# Altium footprint library Oscillator_PcbLib.PcbLib: 9 footprints
Each footprint in its own frame and in the unit in brackets; x right, y up, seen from the top. Pads: shape width x height; smd on the part's side, far side on the other; paste and mask are expansions set on the pad; w line width, h text height; cw(c..) or ccw(c..) is an arc to the next point about the centre after c.
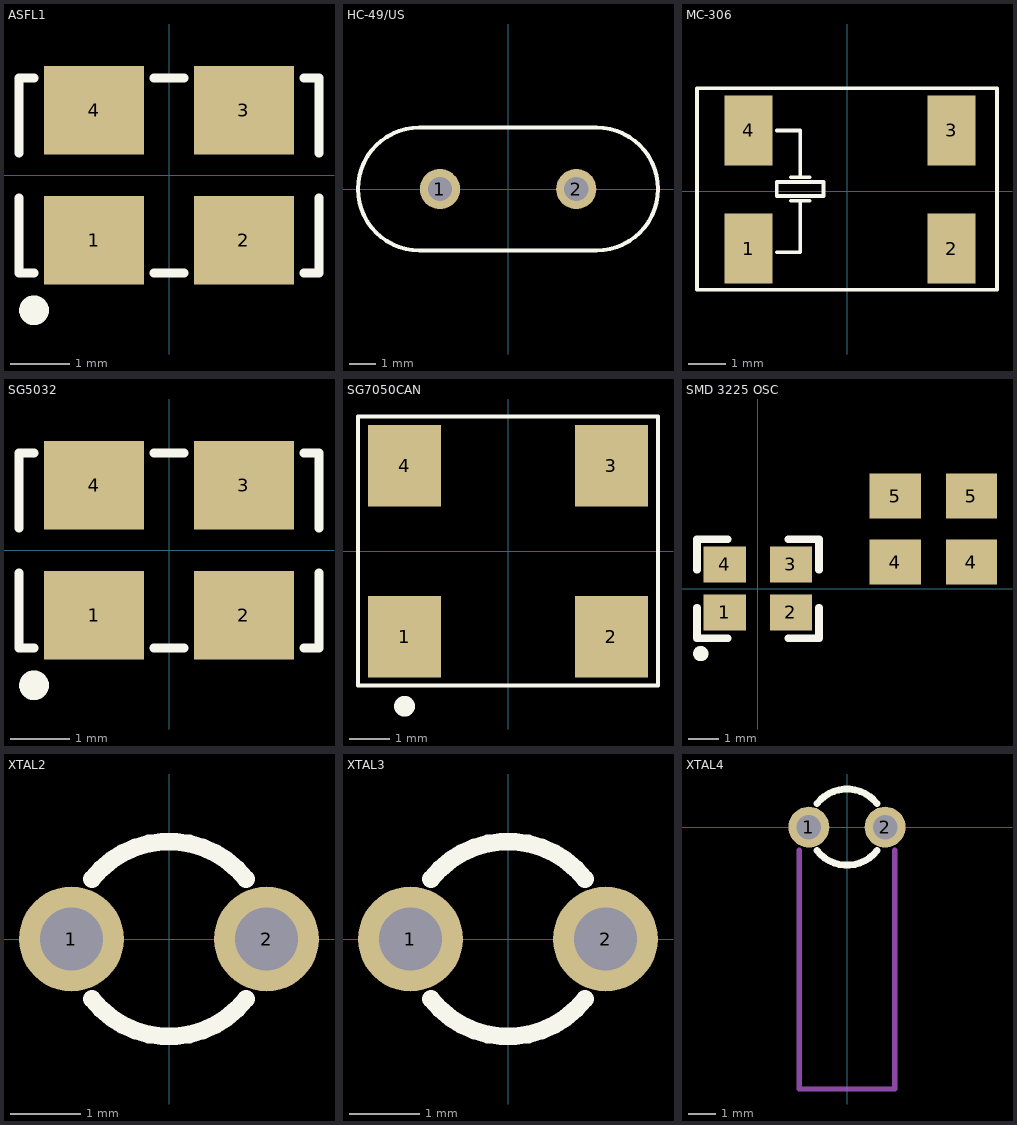
[diagram p0: the footprints below, top view; thin cyan lines are the x and y axes]

## ASFL1 [mm]
pads (4):
  rect 1.7x1.5 smd: 1(-1.27,-1.1) 2(1.27,-1.1) 3(1.27,1.1) 4(-1.27,1.1)
Top Overlay:
  circle w0.25: c-2.286,-2.286 r0.127
  lines w0.15: -2.54,-0.381 -2.54,-1.651 -2.286,-1.651 ; -2.54,0.381 -2.54,1.651 -2.286,1.651 ; -0.254,-1.651 0.254,-1.651 ; -0.254,1.651 0.254,1.651 ; 2.286,-1.651 2.54,-1.651 2.54,-0.381 ; 2.286,1.651 2.54,1.651 2.54,0.381
3D body: height 1.33, standoff 0.01, extent -2.473,-1.6 2.527,1.6

## HC-49/US [mm]
pads (2):
  round 1.5 hole 0.9: 1(-2.54,0) 2(2.54,0)
Top Overlay:
  lines w0.15: -3.302,-2.286 cw(c-3.302,0.004) -3.302,2.293 3.295,2.293 cw(c3.295,0.004) 3.295,-2.286 -3.302,-2.286
3D body: height 3.6, standoff -1.99, extent -5.675,-2.325 5.675,2.325

## MC-306 [mm]
pads (4):
  rect 1.3x1.9 smd: 1(-2.667,-1.549) 2(2.833,-1.549) 3(2.833,1.651) 4(-2.667,1.651)
Top Overlay:
  lines w0.1: -1.905,-1.651 -1.27,-1.651 -1.27,-0.254 ; -1.905,1.651 -1.27,1.651 -1.27,0.381 ; -1.524,-0.254 -1.016,-0.254 ; -1.524,0.381 -1.016,0.381 ; -4.064,-2.667 4.064,-2.667 4.064,2.794 -4.064,2.794 -4.064,-2.667 ; -1.905,-0.127 -1.905,0.254 -0.635,0.254 -0.635,-0.127 -1.905,-0.127
3D body: height 2.7, standoff -0.01, extent -4,-2 4,2

## SG5032 [mm]
pads (4):
  rect 1.7x1.5 smd: 1(-1.27,-1.1) 2(1.27,-1.1) 3(1.27,1.1) 4(-1.27,1.1)
Top Overlay:
  circle w0.25: c-2.286,-2.286 r0.127
  lines w0.15: -2.54,-0.381 -2.54,-1.651 -2.286,-1.651 ; -2.54,0.381 -2.54,1.651 -2.286,1.651 ; -0.254,-1.651 0.254,-1.651 ; -0.254,1.651 0.254,1.651 ; 2.286,-1.651 2.54,-1.651 2.54,-0.381 ; 2.286,1.651 2.54,1.651 2.54,0.381
3D body: height 1.33, standoff 0.01, extent -2.473,-1.6 2.527,1.6

## SG7050CAN [mm]
pads (4):
  rect 1.8x2 smd: 1(-2.54,-2.1) 2(2.54,-2.1) 3(2.54,2.1) 4(-2.54,2.1)
Top Overlay:
  circle w0.254: c-2.54,-3.81 r0.127
  lines w0.1: -3.683,-3.302 -3.683,3.302 3.683,3.302 3.683,-3.302 -3.683,-3.302
3D body: height 1.8, standoff 0, extent -3.5,-2.54 3.5,2.54

## SMD 3225 OSC [mm]
pads (8):
  rect 1.4x1.2 smd: 1(-1.108,-0.787) 2(1.092,-0.787) 3(1.092,0.813) 4(-1.108,0.813)
  rect 1.7x1.5 smd: 4(4.572,0.889) 4(7.112,0.889) 5(4.572,3.089) 5(7.112,3.089)
Top Overlay:
  circle w0.254: c-1.905,-2.159 r0.127
  lines w0.254: -2.032,-0.635 -2.032,-1.651 -1.016,-1.651 ; -2.032,0.635 -2.032,1.651 -1.016,1.651 ; 1.016,-1.651 2.032,-1.651 2.032,-0.635 ; 1.016,1.651 2.032,1.651 2.032,0.635
3D body: height 0.61, standoff 0, extent -1.854,2.413 1.346,4.913

## XTAL2 [mm] "10mm高度 一般插板"
pads (2):
  round 1.5 hole 0.9: 1(-1.397,0) 2(1.397,0)
Top Overlay:
  lines w0.254: -1.103,-0.858 ccw(c0,0) 1.103,-0.858 ; -1.103,0.858 cw(c0,0) 1.103,0.858
3D body: height 8.2, standoff -3, extent -1.4,-1.05 1.4,1.05

## XTAL3 [mm] "10mm高度 一般插板"
pads (2):
  round 1.5 hole 0.9: 1(-1.397,0) 2(1.397,0)
Top Overlay:
  lines w0.254: -1.103,-0.858 ccw(c0,0) 1.103,-0.858 ; -1.103,0.858 cw(c0,0) 1.103,0.858
3D body: height 9.28, standoff -1.5, extent -1.725,-1.6 1.725,1.6

## XTAL4 [mm] "10mm高度 一般插板"
pads (2):
  round 1.5 hole 0.9: 1(-1.397,0) 2(1.397,0)
Top Overlay:
  lines w0.254: -1.103,-0.858 ccw(c0,0) 1.103,-0.858 ; -1.103,0.858 cw(c0,0) 1.103,0.858
Mechanical 15:
  lines w0.2: -1.75,-0.85 -1.75,-9.6 1.75,-9.6 1.75,-0.85
3D body: height 3.3, standoff 0.1, extent -1.725,-9.525 1.725,1.25